# Altium integrated library Analog Devices RF IF PLL Synthesizers and VCOs.IntLib: 183 symbols (part 12 of 15)
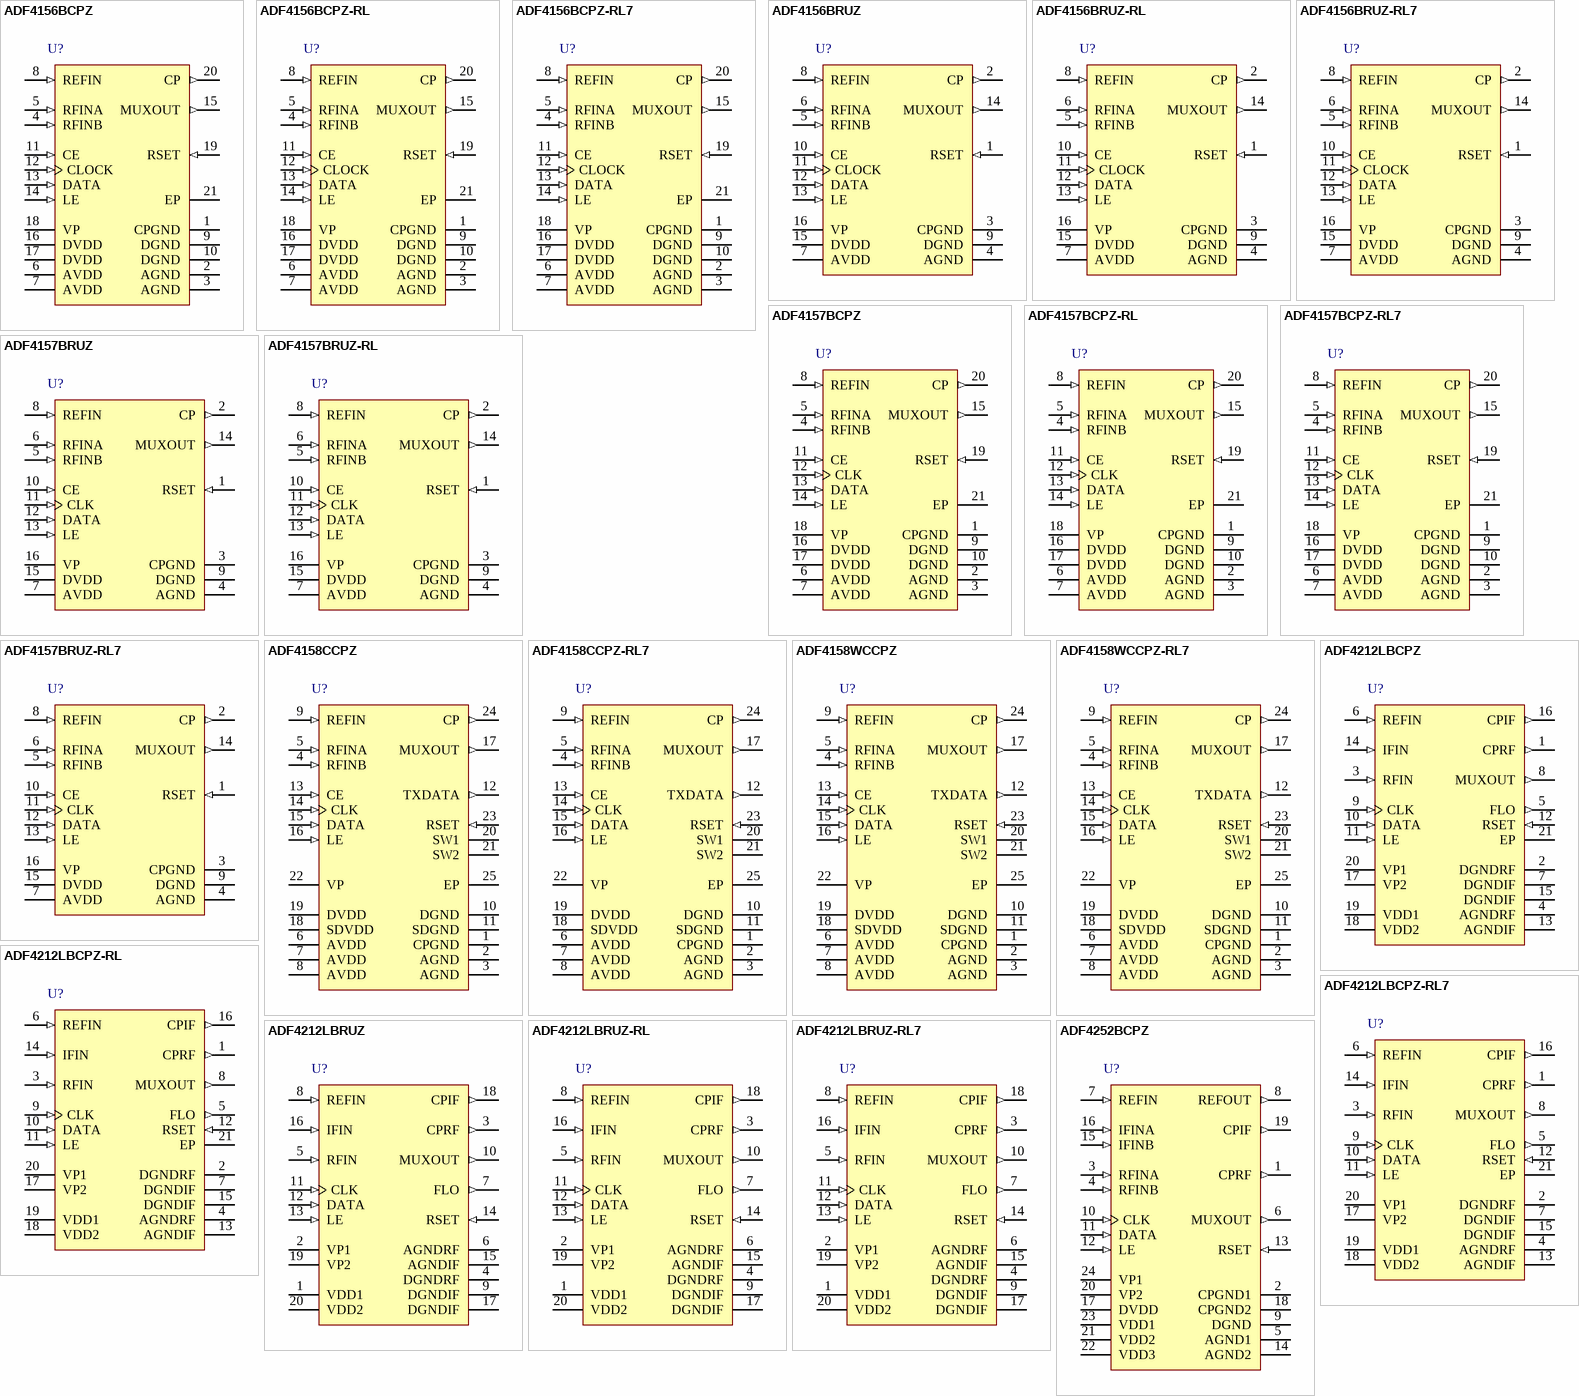
[diagram p19: symbols ADF4156BCPZ to ADF4252BCPZ]

## ADF4212LBRUZ-RL7
designator U?
Dual Low Power PLL Frequency Synthesizer, RU-20, Pb-Free, 1000 Reel; Max RF Input (MHz): 2.4GHz; RF Prescalers: 16/17, 32/33, 64/65, 8/9; Max REFin (MHz): 150MHz; Norm Phase Noise (dBc/Hz): -215dBc; Frequency Range: 200MHz-2.4GHz; Supply Current: 7.5mA; DatasheetVersion: Rev. C; PackageVersion: 2000; PackageReference: RU-20; PackageDescription: 20-Lead Thin Shrink Small Outline Package [TSSOP]; Single/Dual: Dual; Code_JEDEC: MO-153AC; ComponentLink1Description: Manufacturer URL; ComponentLink1URL: www.analog.com; ComponentLink2Description: Datasheet; ComponentLink2URL: http://www.analog.com/static/imported-files/data_sheets/ADF4212L.pdf; ComponentLink3Description: Package Specification; ComponentLink3URL: http://www.analog.com/static/imported-files/packages/364515793657813558433715854054607941441RU20.pdf
footprint ADI-RU-20_N (TSOP, 20-Leads, Body 6.5x4.4mm, Pitch 0.65mm, IPC Medium Density)
footprint ADI-RU-20_L (TSOP, 20-Leads, Body 6.5x4.4mm, Pitch 0.65mm, IPC High Density)
footprint ADI-RU-20_M (TSOP, 20-Leads, Body 6.5x4.4mm, Pitch 0.65mm, IPC Low Density)
pins: 1 VDD1 (power) "Power Supply for the RF Section. Decoupling capacitors to the ground plane should be placed as close as possible to this pin. VDD1 should have a value of between 2.6 V and 3.3 V. [see datasheet]", 2 VP1 (power) "Power Supply for the RF Charge Pump.", 3 CPRF (out) "RF Charge Pump Output. When enabled, this provides +/-ICP to the external RF loop filter, which in turn drives the external RF VCO", 4 DGNDRF (power) "Digital Ground Pin for the RF Digital Circuitry", 5 RFIN (in) "Input to the RF Prescaler. This small signal input is normally ac-coupled from the RF VCO", 6 AGNDRF (power) "Ground Pin for the RF Analog Circuitry", 7 FLO (out) "Multiplexed Output of RF/IF Programmable or Reference Dividers, RF/IF Fastlock Mode. CMOS output", 8 REFIN (in) "Reference Input. This is a CMOS input with a nominal threshold of VDD/2 and an equivalent input resistance of 100 k ohm. See Figure 26. [see datasheet]", 9 DGNDIF (power) "Digital Ground Pin for the IF Digital, Interface, and Control Circuitry", 10 MUXOUT (out) "This multiplexer output allows either the IF/RF lock detect, the scaled RF, the scaled IF, or the scaled reference frequency to be accessed externally", 11 CLK (in) "Serial Clock Input. This serial clock is used to clock in the serial data to the registers. The data is latched into the 24-bit shift register on the CLK rising edge. [see datasheet]", 12 DATA (in) "Serial Data Input. The serial data is loaded MSB first with the two LSBs being the control bits. This input is a high impedance CMOS input", 13 LE (in) "Load Enable, CMOS Input. When LE goes high, the data stored in the shift registers is loaded into one of the four latches, with the latch selected using the control bits", 14 RSET (in) "Connecting a resistor between this pin and ground sets the maximum RF and IF charge pump output current. The nominal voltage potential at the RSET pin is 0.66 V", 15 AGNDIF (power) "Ground Pin for the IF Analog Circuitry", 16 IFIN (in) "Input to the IF Prescaler. This small signal input is normally ac-coupled from the IF VCO", 17 DGNDIF (power) "Digital Ground Pin for the IF Digital, Interface, and Control Circuitry", 18 CPIF (out) "Output from the IF Charge Pump. This is normally connected to a loop filter that drives the input to an external VCO", 19 VP2 (power) "Power Supply for the IF Charge Pump", 20 VDD2 (power) "Power Supply for the IF, Digital, and Interface Section. Decoupling capacitors to the ground plane should be placed as close as possible to this pin. [see datasheet]"

## ADF4252BCPZ
designator U?
Dual Fractional-N/Integer-N Frequency Synthesizer, CP-24-1, Pb-Free, 490 Tray; Max RF Input (MHz): 3GHz; RF Prescalers: 4/5, 8/9; Max REFin (MHz): 250MHz; Norm Phase Noise (dBc/Hz): -214dBc; Supply Current: 13mA; DatasheetVersion: RevB; PackageVersion: May-2004; PackageReference: CP-24-1; PackageDescription: 24-Lead Lead Frame Chip Scale Package [LFCSP]; Single/Dual: Dual; Code_JEDEC: MO-220-VGGD-2; ComponentLink1Description: Manufacturer URL; ComponentLink1URL: www.analog.com; ComponentLink2Description: Datasheet; ComponentLink2URL: http://www.analog.com/static/imported-files/data_sheets/ADF4252.pdf; ComponentLink3Description: Package Specification; ComponentLink3URL: http://www.analog.com/static/imported-files/packages/CP_24_1.pdf
footprint ADI-CP-24-1_N (QFN, 24-Leads, Body 4x4mm, Pitch 0.5mm, Thermal Pad 2.1x2.1mm, IPC Medium Density)
footprint ADI-CP-24-1_L (QFN, 24-Leads, Body 4x4mm, Pitch 0.5mm, Thermal Pad 2.1x2.1mm, IPC High Density)
footprint ADI-CP-24-1_M (QFN, 24-Leads, Body 4x4mm, Pitch 0.5mm, Thermal Pad 2.1x2.1mm, IPC Low Density)
pins: 1 CPRF (out) "RF Charge Pump Output. This is normally connected to a loop filter that drives the input to an external VCO.", 2 CPGND1 (power) "RF Charge Pump Ground.", 3 RFINA (in) "Input to the RF Prescaler. This small signal input is normally taken from the VCO.", 4 RFINB (in) "Complementary Input to the RF Prescaler.", 5 AGND1 (power) "Analog Ground for the RF Synthesizer.", 6 MUXOUT (out) "This multiplexer output allows either the RF or IF lock detect, the scaled RF or IF, or the scaled reference frequency to be accessed externally.", 7 REFIN (in) "Reference Input. This is a CMOS input with a nominal threshold of VDD/2 and an equivalent input resistance of 100 k ohm. [see datasheet]", 8 REFOUT (out) "Reference Output.", 9 DGND (power) "Digital Ground for the Fractional Interpolator.", 10 CLK (in) "Serial Clock Input. This serial clock is used to clock in the serial data to the registers. The data is latched into the shift register on the CLK rising edge. [see datasheet]", 11 DATA (in) "Serial Data Input. The serial data is loaded MSB first with the three LSBs being the control bits. This input is a high impedance CMOS input.", 12 LE (in) "Load Enable, CMOS Input. When LE goes high, the data stored in the shift registers is loaded into one of the seven latches, the latch being selected using the control bits.", 13 RSET (in) "Connecting a resistor between this pin and ground sets the minimum charge pump output current.", 14 AGND2 (power) "Ground for the IF Synthesizer.", 15 IFINB (in) "Complementary Input to the IF Prescaler.", 16 IFINA (in) "Input to the IF Prescaler. This small signal input is normally taken from the IF VCO.", 17 DVDD (power) "Positive Power Supply for the Fractional Interpolator Section. Decoupling capacitors to the ground plane should be placed as close as possible to this pin. [see datasheet]", 18 CPGND2 (power) "IF Charge Pump Ground.", 19 CPIF (out) "IF Charge Pump Output. This is normally connected to a loop filter that drives the input to an external VCO.", 20 VP2 (power) "IF Charge Pump Power Supply. Decoupling capacitors to the ground plane should be placed as close as possible to this pin. This voltage should be greater than or equal to VDD2.", 21 VDD2 (power) "Positive Power Supply for the IF Section. Decoupling capacitors to the ground plane should be placed as close as possible to this pin. [see datasheet]", 22 VDD3 (power) "Positive Power Supply for the RF Digital Section. Decoupling capacitors to the ground plane should be placed as close as possible to this pin. [see datasheet]", 23 VDD1 (power) "Positive Power Supply for the RF Analog Section. Decoupling capacitors to the ground plane should be placed as close as possible to this pin. [see datasheet]", 24 VP1 (power) "RF Charge Pump Power Supply. Decoupling capacitors to the ground plane should be placed as close as possible to this pin. This voltage should be greater than or equal to VDD1."

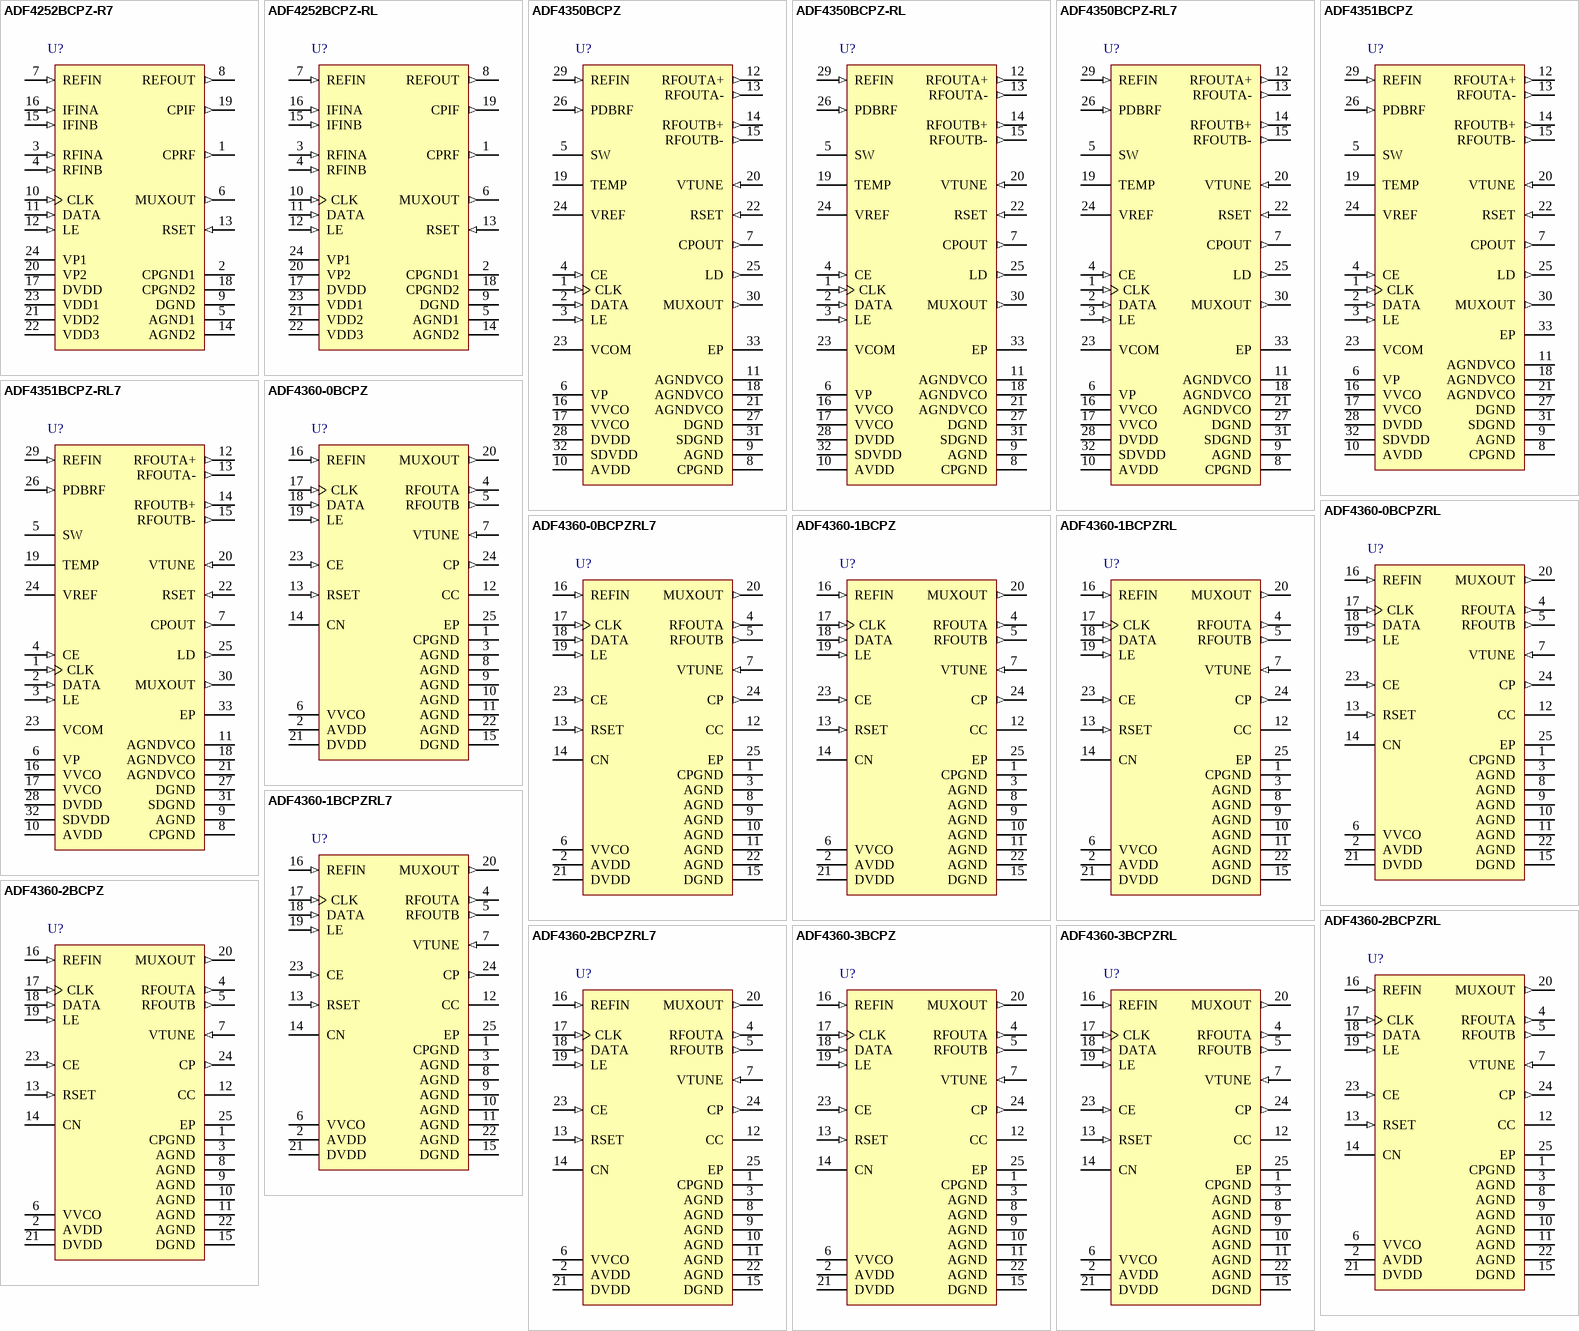
[diagram p6: symbols ADF4252BCPZ-R7 to ADF4360-3BCPZRL]

## ADF4252BCPZ-R7
designator U?
Dual Fractional-N/Integer-N Frequency Synthesizer, CP-24-1, Pb-Free, 1500 Reel; Max RF Input (MHz): 3GHz; RF Prescalers: 4/5, 8/9; Max REFin (MHz): 250MHz; Norm Phase Noise (dBc/Hz): -214dBc; Supply Current: 13mA; DatasheetVersion: RevB; PackageVersion: May-2004; PackageReference: CP-24-1; PackageDescription: 24-Lead Lead Frame Chip Scale Package [LFCSP]; Single/Dual: Dual; Code_JEDEC: MO-220-VGGD-2; ComponentLink1Description: Manufacturer URL; ComponentLink1URL: www.analog.com; ComponentLink2Description: Datasheet; ComponentLink2URL: http://www.analog.com/static/imported-files/data_sheets/ADF4252.pdf; ComponentLink3Description: Package Specification; ComponentLink3URL: http://www.analog.com/static/imported-files/packages/CP_24_1.pdf
footprint ADI-CP-24-1_N (QFN, 24-Leads, Body 4x4mm, Pitch 0.5mm, Thermal Pad 2.1x2.1mm, IPC Medium Density)
footprint ADI-CP-24-1_L (QFN, 24-Leads, Body 4x4mm, Pitch 0.5mm, Thermal Pad 2.1x2.1mm, IPC High Density)
footprint ADI-CP-24-1_M (QFN, 24-Leads, Body 4x4mm, Pitch 0.5mm, Thermal Pad 2.1x2.1mm, IPC Low Density)
pins: 1 CPRF (out) "RF Charge Pump Output. This is normally connected to a loop filter that drives the input to an external VCO.", 2 CPGND1 (power) "RF Charge Pump Ground.", 3 RFINA (in) "Input to the RF Prescaler. This small signal input is normally taken from the VCO.", 4 RFINB (in) "Complementary Input to the RF Prescaler.", 5 AGND1 (power) "Analog Ground for the RF Synthesizer.", 6 MUXOUT (out) "This multiplexer output allows either the RF or IF lock detect, the scaled RF or IF, or the scaled reference frequency to be accessed externally.", 7 REFIN (in) "Reference Input. This is a CMOS input with a nominal threshold of VDD/2 and an equivalent input resistance of 100 k ohm. [see datasheet]", 8 REFOUT (out) "Reference Output.", 9 DGND (power) "Digital Ground for the Fractional Interpolator.", 10 CLK (in) "Serial Clock Input. This serial clock is used to clock in the serial data to the registers. The data is latched into the shift register on the CLK rising edge. [see datasheet]", 11 DATA (in) "Serial Data Input. The serial data is loaded MSB first with the three LSBs being the control bits. This input is a high impedance CMOS input.", 12 LE (in) "Load Enable, CMOS Input. When LE goes high, the data stored in the shift registers is loaded into one of the seven latches, the latch being selected using the control bits.", 13 RSET (in) "Connecting a resistor between this pin and ground sets the minimum charge pump output current.", 14 AGND2 (power) "Ground for the IF Synthesizer.", 15 IFINB (in) "Complementary Input to the IF Prescaler.", 16 IFINA (in) "Input to the IF Prescaler. This small signal input is normally taken from the IF VCO.", 17 DVDD (power) "Positive Power Supply for the Fractional Interpolator Section. Decoupling capacitors to the ground plane should be placed as close as possible to this pin. [see datasheet]", 18 CPGND2 (power) "IF Charge Pump Ground.", 19 CPIF (out) "IF Charge Pump Output. This is normally connected to a loop filter that drives the input to an external VCO.", 20 VP2 (power) "IF Charge Pump Power Supply. Decoupling capacitors to the ground plane should be placed as close as possible to this pin. This voltage should be greater than or equal to VDD2.", 21 VDD2 (power) "Positive Power Supply for the IF Section. Decoupling capacitors to the ground plane should be placed as close as possible to this pin. [see datasheet]", 22 VDD3 (power) "Positive Power Supply for the RF Digital Section. Decoupling capacitors to the ground plane should be placed as close as possible to this pin. [see datasheet]", 23 VDD1 (power) "Positive Power Supply for the RF Analog Section. Decoupling capacitors to the ground plane should be placed as close as possible to this pin. [see datasheet]", 24 VP1 (power) "RF Charge Pump Power Supply. Decoupling capacitors to the ground plane should be placed as close as possible to this pin. This voltage should be greater than or equal to VDD1."

## ADF4252BCPZ-RL
designator U?
Dual Fractional-N/Integer-N Frequency Synthesizer, CP-24-1, Pb-Free, 5000 Reel; Max RF Input (MHz): 3GHz; RF Prescalers: 4/5, 8/9; Max REFin (MHz): 250MHz; Norm Phase Noise (dBc/Hz): -214dBc; Supply Current: 13mA; DatasheetVersion: RevB; PackageVersion: May-2004; PackageReference: CP-24-1; PackageDescription: 24-Lead Lead Frame Chip Scale Package [LFCSP]; Single/Dual: Dual; Code_JEDEC: MO-220-VGGD-2; ComponentLink1Description: Manufacturer URL; ComponentLink1URL: www.analog.com; ComponentLink2Description: Datasheet; ComponentLink2URL: http://www.analog.com/static/imported-files/data_sheets/ADF4252.pdf; ComponentLink3Description: Package Specification; ComponentLink3URL: http://www.analog.com/static/imported-files/packages/CP_24_1.pdf
footprint ADI-CP-24-1_N (QFN, 24-Leads, Body 4x4mm, Pitch 0.5mm, Thermal Pad 2.1x2.1mm, IPC Medium Density)
footprint ADI-CP-24-1_L (QFN, 24-Leads, Body 4x4mm, Pitch 0.5mm, Thermal Pad 2.1x2.1mm, IPC High Density)
footprint ADI-CP-24-1_M (QFN, 24-Leads, Body 4x4mm, Pitch 0.5mm, Thermal Pad 2.1x2.1mm, IPC Low Density)
pins: 1 CPRF (out) "RF Charge Pump Output. This is normally connected to a loop filter that drives the input to an external VCO.", 2 CPGND1 (power) "RF Charge Pump Ground.", 3 RFINA (in) "Input to the RF Prescaler. This small signal input is normally taken from the VCO.", 4 RFINB (in) "Complementary Input to the RF Prescaler.", 5 AGND1 (power) "Analog Ground for the RF Synthesizer.", 6 MUXOUT (out) "This multiplexer output allows either the RF or IF lock detect, the scaled RF or IF, or the scaled reference frequency to be accessed externally.", 7 REFIN (in) "Reference Input. This is a CMOS input with a nominal threshold of VDD/2 and an equivalent input resistance of 100 k ohm. [see datasheet]", 8 REFOUT (out) "Reference Output.", 9 DGND (power) "Digital Ground for the Fractional Interpolator.", 10 CLK (in) "Serial Clock Input. This serial clock is used to clock in the serial data to the registers. The data is latched into the shift register on the CLK rising edge. [see datasheet]", 11 DATA (in) "Serial Data Input. The serial data is loaded MSB first with the three LSBs being the control bits. This input is a high impedance CMOS input.", 12 LE (in) "Load Enable, CMOS Input. When LE goes high, the data stored in the shift registers is loaded into one of the seven latches, the latch being selected using the control bits.", 13 RSET (in) "Connecting a resistor between this pin and ground sets the minimum charge pump output current.", 14 AGND2 (power) "Ground for the IF Synthesizer.", 15 IFINB (in) "Complementary Input to the IF Prescaler.", 16 IFINA (in) "Input to the IF Prescaler. This small signal input is normally taken from the IF VCO.", 17 DVDD (power) "Positive Power Supply for the Fractional Interpolator Section. Decoupling capacitors to the ground plane should be placed as close as possible to this pin. [see datasheet]", 18 CPGND2 (power) "IF Charge Pump Ground.", 19 CPIF (out) "IF Charge Pump Output. This is normally connected to a loop filter that drives the input to an external VCO.", 20 VP2 (power) "IF Charge Pump Power Supply. Decoupling capacitors to the ground plane should be placed as close as possible to this pin. This voltage should be greater than or equal to VDD2.", 21 VDD2 (power) "Positive Power Supply for the IF Section. Decoupling capacitors to the ground plane should be placed as close as possible to this pin. [see datasheet]", 22 VDD3 (power) "Positive Power Supply for the RF Digital Section. Decoupling capacitors to the ground plane should be placed as close as possible to this pin. [see datasheet]", 23 VDD1 (power) "Positive Power Supply for the RF Analog Section. Decoupling capacitors to the ground plane should be placed as close as possible to this pin. [see datasheet]", 24 VP1 (power) "RF Charge Pump Power Supply. Decoupling capacitors to the ground plane should be placed as close as possible to this pin. This voltage should be greater than or equal to VDD1."

## ADF4350BCPZ
designator U?
Wideband Synthesizer with Integrated VCO, CP-32-2, Pb-Free, 490 Tray; Single/Dual: Single; Max RF Input (MHz): 4.4GHz; RF Prescalers: 4/5, 8/9; Max REFin (MHz): 250MHz; Norm Phase Noise (dBc/Hz): -220dBc; Frequency Range: 137.5MHz-4.35GHz; Supply Current: 110mA; DatasheetVersion: Rev. A; PackageVersion: Jan-2005; PackageReference: CP-32-2; PackageDescription: 32-Lead Lead Frame Chip Scale Package [LFCSP_VQ]; Code_JEDEC: MO-220-VHHD-2; ComponentLink1Description: Manufacturer URL; ComponentLink1URL: www.analog.com; ComponentLink2Description: Datasheet; ComponentLink2URL: http://www.analog.com/static/imported-files/data_sheets/ADF4350.pdf; ComponentLink3Description: Package Specification; ComponentLink3URL: http://www.analog.com/static/imported-files/packages/414143737956480539664569CP_32_2.pdf
footprint ADI-CP-32-2_N (QFN, 32-Leads, Body 5x5mm, Pitch 0.5mm, Thermal Pad 3.1x3.1mm, IPC Medium Density)
footprint ADI-CP-32-2_L (QFN, 32-Leads, Body 5x5mm, Pitch 0.5mm, Thermal Pad 3.1x3.1mm, IPC High Density)
footprint ADI-CP-32-2_M (QFN, 32-Leads, Body 5x5mm, Pitch 0.5mm, Thermal Pad 3.1x3.1mm, IPC Low Density)
pins: 1 CLK (in) "Serial Clock Input. Data is clocked into the 32-bit shift register on the CLK rising edge. This input is a high impedance CMOS input.", 2 DATA (in) "Serial Data Input. The serial data is loaded MSB first with the three LSBs as the control bits. This input is a high impedance CMOS input.", 3 LE (in) "Load Enable, CMOS Input. When LE goes high, the data stored in the shift register is loaded into the register that is selected by the three LSBs.", 4 CE (in) "Chip Enable. A logic low on this pin powers down the device and puts the charge pump into three-state mode. [see datasheet]", 5 SW "Fast-Lock Switch. A connection should be made from the loop filter to this pin when using the fast-lock mode.", 6 VP (power) "Charge Pump Power Supply. This pin is to be equal to AVDD. Decoupling capacitors to the ground plane are to be placed as close as possible to this pin.", 7 CPOUT (out) "Charge Pump Output. When enabled, this provides +/-ICP to the external loop filter. The output of the loop filter is connected to VTUNE to drive the internal VCO.", 8 CPGND (power) "Charge Pump Ground. This is the ground return pin for CPOUT.", 9 AGND (power) "Analog Ground. This is a ground return pin for AVDD.", 10 AVDD (power) "Analog Power Supply. This pin ranges from 3.0 V to 3.6 V. Decoupling capacitors to the analog ground plane are to be placed as close as possible to this pin. [see datasheet]", 11 AGNDVCO (power) "VCO Analog Ground. These are the ground return pins for the VCO.", 12 RFOUTA+ (out) "VCO Output. The output level is programmable. The VCO fundamental output or a divided down version is available.", 13 RFOUTA- (out) "Complementary VCO Output. The output level is programmable. The VCO fundamental output or a divided down version is available.", 14 RFOUTB+ (out) "Auxilliary VCO Output. The output level is programmable. The VCO fundamental output or a divided down version is available.", 15 RFOUTB- (out) "Complementary Auxilliary VCO Output. The output level is programmable. The VCO fundamental output or a divided down version is available.", 16 VVCO (power) "Power Supply for the VCO. This ranges from 3.0 V to 3.6 V. Decoupling capacitors to the analog ground plane should be placed as close as possible to these pins. [see datasheet]", 17 VVCO (power) "Power Supply for the VCO. This ranges from 3.0 V to 3.6 V. Decoupling capacitors to the analog ground plane should be placed as close as possible to these pins. [see datasheet]", 18 AGNDVCO (power) "VCO Analog Ground. These are the ground return pins for the VCO.", 19 TEMP "Temperature Compensation Output. Decoupling capacitors to the ground plane are to be placed as close as possible to this pin.", 20 VTUNE (in) "Control Input to the VCO. This voltage determines the output frequency and is derived from filtering the CPOUT output voltage.", 21 AGNDVCO (power) "VCO Analog Ground. These are the ground return pins for the VCO.", 22 RSET (in) "Connecting a resistor between this pin and GND sets the charge pump output current. The nominal voltage bias at the RSET pin is 0.55 V. [see datasheet.]", 23 VCOM "Internal Compensation Node Biased at Half the Tuning Range. Decoupling capacitors to the ground plane should be placed as close as possible to this pin.", 24 VREF "Reference Voltage. Decoupling capacitors to the ground plane should be placed as close as possible to this pin.", 25 LD (out) "Lock Detect Output Pin. This pin outputs a logic high to indicate PLL lock. A logic low output indicates loss of PLL lock.", 26 PDBRF (in) "RF Power-Down. A logic low on this pin mutes the RF outputs. This function is also software controllable.", 27 DGND (power) "Digital Ground. Ground return path for DVDD.", 28 DVDD (power) "Digital Power Supply. This pin should be the same voltage as AVDD. Decoupling capacitors to the ground plane should be placed as close as possible to this pin.", 29 REFIN (in) "Reference Input. This is a CMOS input with a nominal threshold of VDD/2 and a dc equivalent input resistance of 100 k ohm. [see datasheet]", 30 MUXOUT (out) "Multiplexer Output. This multiplexer output allows either the lock detect, the scaled RF, or the scaled reference frequency to be accessed externally.", 31 SDGND (power) "Digital Sigma-Delta (Sigma-Delta) Modulator Ground. Ground return path for the Sigma-Delta modulator.", 32 SDVDD (power) "Power Supply Pin for the Digital Sigma-Delta Modulator. Should be the same voltage as AVDD. Decouplingcapacitorsto the ground plane are to be placed as close as possible to this pin.", 33 EP (power) "Exposed Pad."

## ADF4350BCPZ-RL
designator U?
Wideband Synthesizer with Integrated VCO, CP-32-2, Pb-Free, 5000 Reel; Single/Dual: Single; Max RF Input (MHz): 4.4GHz; RF Prescalers: 4/5, 8/9; Max REFin (MHz): 250MHz; Norm Phase Noise (dBc/Hz): -220dBc; Frequency Range: 137.5MHz-4.35GHz; Supply Current: 110mA; DatasheetVersion: Rev. A; PackageVersion: Jan-2005; PackageReference: CP-32-2; PackageDescription: 32-Lead Lead Frame Chip Scale Package [LFCSP_VQ]; Code_JEDEC: MO-220-VHHD-2; ComponentLink1Description: Manufacturer URL; ComponentLink1URL: www.analog.com; ComponentLink2Description: Datasheet; ComponentLink2URL: http://www.analog.com/static/imported-files/data_sheets/ADF4350.pdf; ComponentLink3Description: Package Specification; ComponentLink3URL: http://www.analog.com/static/imported-files/packages/414143737956480539664569CP_32_2.pdf
footprint ADI-CP-32-2_N (QFN, 32-Leads, Body 5x5mm, Pitch 0.5mm, Thermal Pad 3.1x3.1mm, IPC Medium Density)
footprint ADI-CP-32-2_L (QFN, 32-Leads, Body 5x5mm, Pitch 0.5mm, Thermal Pad 3.1x3.1mm, IPC High Density)
footprint ADI-CP-32-2_M (QFN, 32-Leads, Body 5x5mm, Pitch 0.5mm, Thermal Pad 3.1x3.1mm, IPC Low Density)
pins: 1 CLK (in) "Serial Clock Input. Data is clocked into the 32-bit shift register on the CLK rising edge. This input is a high impedance CMOS input.", 2 DATA (in) "Serial Data Input. The serial data is loaded MSB first with the three LSBs as the control bits. This input is a high impedance CMOS input.", 3 LE (in) "Load Enable, CMOS Input. When LE goes high, the data stored in the shift register is loaded into the register that is selected by the three LSBs.", 4 CE (in) "Chip Enable. A logic low on this pin powers down the device and puts the charge pump into three-state mode. [see datasheet]", 5 SW "Fast-Lock Switch. A connection should be made from the loop filter to this pin when using the fast-lock mode.", 6 VP (power) "Charge Pump Power Supply. This pin is to be equal to AVDD. Decoupling capacitors to the ground plane are to be placed as close as possible to this pin.", 7 CPOUT (out) "Charge Pump Output. When enabled, this provides +/-ICP to the external loop filter. The output of the loop filter is connected to VTUNE to drive the internal VCO.", 8 CPGND (power) "Charge Pump Ground. This is the ground return pin for CPOUT.", 9 AGND (power) "Analog Ground. This is a ground return pin for AVDD.", 10 AVDD (power) "Analog Power Supply. This pin ranges from 3.0 V to 3.6 V. Decoupling capacitors to the analog ground plane are to be placed as close as possible to this pin. [see datasheet]", 11 AGNDVCO (power) "VCO Analog Ground. These are the ground return pins for the VCO.", 12 RFOUTA+ (out) "VCO Output. The output level is programmable. The VCO fundamental output or a divided down version is available.", 13 RFOUTA- (out) "Complementary VCO Output. The output level is programmable. The VCO fundamental output or a divided down version is available.", 14 RFOUTB+ (out) "Auxilliary VCO Output. The output level is programmable. The VCO fundamental output or a divided down version is available.", 15 RFOUTB- (out) "Complementary Auxilliary VCO Output. The output level is programmable. The VCO fundamental output or a divided down version is available.", 16 VVCO (power) "Power Supply for the VCO. This ranges from 3.0 V to 3.6 V. Decoupling capacitors to the analog ground plane should be placed as close as possible to these pins. [see datasheet]", 17 VVCO (power) "Power Supply for the VCO. This ranges from 3.0 V to 3.6 V. Decoupling capacitors to the analog ground plane should be placed as close as possible to these pins. [see datasheet]", 18 AGNDVCO (power) "VCO Analog Ground. These are the ground return pins for the VCO.", 19 TEMP "Temperature Compensation Output. Decoupling capacitors to the ground plane are to be placed as close as possible to this pin.", 20 VTUNE (in) "Control Input to the VCO. This voltage determines the output frequency and is derived from filtering the CPOUT output voltage.", 21 AGNDVCO (power) "VCO Analog Ground. These are the ground return pins for the VCO.", 22 RSET (in) "Connecting a resistor between this pin and GND sets the charge pump output current. The nominal voltage bias at the RSET pin is 0.55 V. [see datasheet.]", 23 VCOM "Internal Compensation Node Biased at Half the Tuning Range. Decoupling capacitors to the ground plane should be placed as close as possible to this pin.", 24 VREF "Reference Voltage. Decoupling capacitors to the ground plane should be placed as close as possible to this pin.", 25 LD (out) "Lock Detect Output Pin. This pin outputs a logic high to indicate PLL lock. A logic low output indicates loss of PLL lock.", 26 PDBRF (in) "RF Power-Down. A logic low on this pin mutes the RF outputs. This function is also software controllable.", 27 DGND (power) "Digital Ground. Ground return path for DVDD.", 28 DVDD (power) "Digital Power Supply. This pin should be the same voltage as AVDD. Decoupling capacitors to the ground plane should be placed as close as possible to this pin.", 29 REFIN (in) "Reference Input. This is a CMOS input with a nominal threshold of VDD/2 and a dc equivalent input resistance of 100 k ohm. [see datasheet]", 30 MUXOUT (out) "Multiplexer Output. This multiplexer output allows either the lock detect, the scaled RF, or the scaled reference frequency to be accessed externally.", 31 SDGND (power) "Digital Sigma-Delta (Sigma-Delta) Modulator Ground. Ground return path for the Sigma-Delta modulator.", 32 SDVDD (power) "Power Supply Pin for the Digital Sigma-Delta Modulator. Should be the same voltage as AVDD. Decouplingcapacitorsto the ground plane are to be placed as close as possible to this pin.", 33 EP (power) "Exposed Pad."

## ADF4350BCPZ-RL7
designator U?
Wideband Synthesizer with Integrated VCO, CP-32-2, Pb-Free, 1500 Reel; Single/Dual: Single; Max RF Input (MHz): 4.4GHz; RF Prescalers: 4/5, 8/9; Max REFin (MHz): 250MHz; Norm Phase Noise (dBc/Hz): -220dBc; Frequency Range: 137.5MHz-4.35GHz; Supply Current: 110mA; DatasheetVersion: Rev. A; PackageVersion: Jan-2005; PackageReference: CP-32-2; PackageDescription: 32-Lead Lead Frame Chip Scale Package [LFCSP_VQ]; Code_JEDEC: MO-220-VHHD-2; ComponentLink1Description: Manufacturer URL; ComponentLink1URL: www.analog.com; ComponentLink2Description: Datasheet; ComponentLink2URL: http://www.analog.com/static/imported-files/data_sheets/ADF4350.pdf; ComponentLink3Description: Package Specification; ComponentLink3URL: http://www.analog.com/static/imported-files/packages/414143737956480539664569CP_32_2.pdf
footprint ADI-CP-32-2_N (QFN, 32-Leads, Body 5x5mm, Pitch 0.5mm, Thermal Pad 3.1x3.1mm, IPC Medium Density)
footprint ADI-CP-32-2_L (QFN, 32-Leads, Body 5x5mm, Pitch 0.5mm, Thermal Pad 3.1x3.1mm, IPC High Density)
footprint ADI-CP-32-2_M (QFN, 32-Leads, Body 5x5mm, Pitch 0.5mm, Thermal Pad 3.1x3.1mm, IPC Low Density)
pins: 1 CLK (in) "Serial Clock Input. Data is clocked into the 32-bit shift register on the CLK rising edge. This input is a high impedance CMOS input.", 2 DATA (in) "Serial Data Input. The serial data is loaded MSB first with the three LSBs as the control bits. This input is a high impedance CMOS input.", 3 LE (in) "Load Enable, CMOS Input. When LE goes high, the data stored in the shift register is loaded into the register that is selected by the three LSBs.", 4 CE (in) "Chip Enable. A logic low on this pin powers down the device and puts the charge pump into three-state mode. [see datasheet]", 5 SW "Fast-Lock Switch. A connection should be made from the loop filter to this pin when using the fast-lock mode.", 6 VP (power) "Charge Pump Power Supply. This pin is to be equal to AVDD. Decoupling capacitors to the ground plane are to be placed as close as possible to this pin.", 7 CPOUT (out) "Charge Pump Output. When enabled, this provides +/-ICP to the external loop filter. The output of the loop filter is connected to VTUNE to drive the internal VCO.", 8 CPGND (power) "Charge Pump Ground. This is the ground return pin for CPOUT.", 9 AGND (power) "Analog Ground. This is a ground return pin for AVDD.", 10 AVDD (power) "Analog Power Supply. This pin ranges from 3.0 V to 3.6 V. Decoupling capacitors to the analog ground plane are to be placed as close as possible to this pin. [see datasheet]", 11 AGNDVCO (power) "VCO Analog Ground. These are the ground return pins for the VCO.", 12 RFOUTA+ (out) "VCO Output. The output level is programmable. The VCO fundamental output or a divided down version is available.", 13 RFOUTA- (out) "Complementary VCO Output. The output level is programmable. The VCO fundamental output or a divided down version is available.", 14 RFOUTB+ (out) "Auxilliary VCO Output. The output level is programmable. The VCO fundamental output or a divided down version is available.", 15 RFOUTB- (out) "Complementary Auxilliary VCO Output. The output level is programmable. The VCO fundamental output or a divided down version is available.", 16 VVCO (power) "Power Supply for the VCO. This ranges from 3.0 V to 3.6 V. Decoupling capacitors to the analog ground plane should be placed as close as possible to these pins. [see datasheet]", 17 VVCO (power) "Power Supply for the VCO. This ranges from 3.0 V to 3.6 V. Decoupling capacitors to the analog ground plane should be placed as close as possible to these pins. [see datasheet]", 18 AGNDVCO (power) "VCO Analog Ground. These are the ground return pins for the VCO.", 19 TEMP "Temperature Compensation Output. Decoupling capacitors to the ground plane are to be placed as close as possible to this pin.", 20 VTUNE (in) "Control Input to the VCO. This voltage determines the output frequency and is derived from filtering the CPOUT output voltage.", 21 AGNDVCO (power) "VCO Analog Ground. These are the ground return pins for the VCO.", 22 RSET (in) "Connecting a resistor between this pin and GND sets the charge pump output current. The nominal voltage bias at the RSET pin is 0.55 V. [see datasheet.]", 23 VCOM "Internal Compensation Node Biased at Half the Tuning Range. Decoupling capacitors to the ground plane should be placed as close as possible to this pin.", 24 VREF "Reference Voltage. Decoupling capacitors to the ground plane should be placed as close as possible to this pin.", 25 LD (out) "Lock Detect Output Pin. This pin outputs a logic high to indicate PLL lock. A logic low output indicates loss of PLL lock.", 26 PDBRF (in) "RF Power-Down. A logic low on this pin mutes the RF outputs. This function is also software controllable.", 27 DGND (power) "Digital Ground. Ground return path for DVDD.", 28 DVDD (power) "Digital Power Supply. This pin should be the same voltage as AVDD. Decoupling capacitors to the ground plane should be placed as close as possible to this pin.", 29 REFIN (in) "Reference Input. This is a CMOS input with a nominal threshold of VDD/2 and a dc equivalent input resistance of 100 k ohm. [see datasheet]", 30 MUXOUT (out) "Multiplexer Output. This multiplexer output allows either the lock detect, the scaled RF, or the scaled reference frequency to be accessed externally.", 31 SDGND (power) "Digital Sigma-Delta (Sigma-Delta) Modulator Ground. Ground return path for the Sigma-Delta modulator.", 32 SDVDD (power) "Power Supply Pin for the Digital Sigma-Delta Modulator. Should be the same voltage as AVDD. Decouplingcapacitorsto the ground plane are to be placed as close as possible to this pin.", 33 EP (power) "Exposed Pad."

## ADF4351BCPZ
designator U?
Wideband Synthesizer with Integrated VCO, CP-32-2, Pb-Free, 490 Tray; Single/Dual: Single; Max RF Input (MHz): 4.4GHz; RF Prescalers: 4/5,8/9; Max REFin (MHz): 250MHz; Norm Phase Noise (dBc/Hz): -221dBc; Frequency Range: 35MHz-4.4GHz; Supply Current: 110mA; DatasheetVersion: Rev. Pr D; PackageVersion: Jan-2005; PackageReference: CP-32-2; PackageDescription: 32-Lead Lead Frame Chip Scale Package [LFCSP_VQ]; Code_JEDEC: MO-220-VHHD-2; ComponentLink1Description: Manufacturer URL; ComponentLink1URL: www.analog.com; ComponentLink2Description: Datasheet; ComponentLink2URL: http://www.analog.com/static/imported-files/data_sheets/ADF4351.pdf; ComponentLink3Description: Package Specification; ComponentLink3URL: http://www.analog.com/static/imported-files/packages/414143737956480539664569CP_32_2.pdf
footprint ADI-CP-32-2_N (QFN, 32-Leads, Body 5x5mm, Pitch 0.5mm, Thermal Pad 3.1x3.1mm, IPC Medium Density)
footprint ADI-CP-32-2_L (QFN, 32-Leads, Body 5x5mm, Pitch 0.5mm, Thermal Pad 3.1x3.1mm, IPC High Density)
footprint ADI-CP-32-2_M (QFN, 32-Leads, Body 5x5mm, Pitch 0.5mm, Thermal Pad 3.1x3.1mm, IPC Low Density)
pins: 1 CLK (in) "Serial Clock Input. Data is clocked into the 32-bit shift register on the CLK rising edge. This input is a high impedance CMOS input.", 2 DATA (in) "Serial Data Input. The serial data is loaded MSB first with the three LSBs as the control bits. This input is a highimpedance CMOS input.", 3 LE (in) "Load Enable, CMOS Input. When LE goes high, the data stored in the shift register is loaded into the register that is selected by the three LSBs.", 4 CE (in) "Chip Enable. A logic low on this pin powers down the device and puts the charge pump into three-state mode. [see datasheet]", 5 SW "Fast-Lock Switch. A connection should be made from the loop filter to this pin when using the fast-lock mode.", 6 VP (power) "Charge Pump Power Supply. This pin is to be equal to AVDD. Decoupling capacitors to the ground plane are to be placed as close as possible to this pin.", 7 CPOUT (out) "Charge Pump Output. When enabled, this provides +/-ICP to the external loop filter. The output of the loop filter is connected to VTUNE to drive the internal VCO.", 8 CPGND (power) "Charge Pump Ground. This is the ground return pin for CPOUT.", 9 AGND (power) "Analog Ground. This is a ground return pin for AVDD.", 10 AVDD (power) "Analog Power Supply. This pin ranges from 3.0 V to 3.6 V. Decoupling capacitors to the analog ground plane are to be placed as close as possible to this pin. [see datasheet]", 11 AGNDVCO (power) "VCO Analog Ground. These are the ground return pins for the VCO.", 12 RFOUTA+ (out) "VCO Output. The output level is programmable. The VCO fundamental output or a divided down version is available.", 13 RFOUTA- (out) "Complementary VCO Output. The output level is programmable. The VCO fundamental output or a divide down version is available.", 14 RFOUTB+ (out) "Auxilliary VCO Output. The output level is programmable. The VCO fundamental output or a divided down version is available.", 15 RFOUTB- (out) "Complementary Auxilliary VCO Output. The output level is programmable. The VCO fundamental output or a divided down version is available.", 16 VVCO (power) "Power Supply for the VCO. This ranges from 3.0 V to 3.6 V. Decoupling capacitors to the analog ground plane should be placed as close as possible to these pins. [see datasheet]", 17 VVCO (power) "Power Supply for the VCO. This ranges from 3.0 V to 3.6 V. Decoupling capacitors to the analog ground plane should be placed as close as possible to these pins. [see datasheet]", 18 AGNDVCO (power) "VCO Analog Ground. These are the ground return pins for the VCO.", 19 TEMP "Temperature Compensation Output. Decoupling capacitors to the ground plane are to be placed as close as possible to this pin.", 20 VTUNE (in) "Control Input to the VCO. This voltage determines the output frequency and is derived from filtering the CPOUT output voltage.", 21 AGNDVCO (power) "VCO Analog Ground. These are the ground return pins for the VCO.", 22 RSET (in) "Connecting a resistor between this pin and GND sets the charge pump output current. The nominal voltage bias at the RSET pin is 0.55 V.", 23 VCOM "Internal Compensation Node Biased at Half the Tuning Range. Decoupling capacitors to the ground plane should be placed as close as possible to this pin.", 24 VREF "Reference Voltage. Decoupling capacitors to the ground plane should be placed as close as possible to this pin.", 25 LD (out) "Lock Detect Output Pin. This pin outputs a logic high to indicate PLL lock. A logic low output indicates loss of PLL lock.", 26 PDBRF (in) "RF Power-Down. A logic low on this pin mutes the RF outputs. This function is also software controllable.", 27 DGND (power) "Digital Ground. Ground return path for DVDD.", 28 DVDD (power) "Digital Power Supply. This pin should be the same voltage as AVDD. Decoupling capacitors to the ground plane should be placed as close as possible to this pin.", 29 REFIN (in) "Reference Input. This is a CMOS input with a nominal threshold of VDD/2 and a dc equivalent input resistance of 100 k ohm. [see datasheet]", 30 MUXOUT (out) "Multiplexer Output. This multiplexer output allows either the lock detect, the scaled RF, or the scaled reference frequency to be accessed externally.", 31 SDGND (power) "Digital Sigma-Delta Modulator Ground. Ground return path for the Sigma-Delta Modulator.", 32 SDVDD (power) "Power Supply Pin for the Digital Sigma-Delta Modulator. Should be the same voltage as AVDD. Decoupling capacitors to the ground plane are to be placed as close as possible to this pin.", 33 EP (power) "Exposed Pad."

## ADF4351BCPZ-RL7
designator U?
Wideband Synthesizer with Integrated VCO, CP-32-2, Pb-Free, 1500 Reel; Single/Dual: Single; Max RF Input (MHz): 4.4GHz; RF Prescalers: 4/5,8/9; Max REFin (MHz): 250MHz; Norm Phase Noise (dBc/Hz): -221dBc; Frequency Range: 35MHz-4.4GHz; Supply Current: 110mA; DatasheetVersion: Rev. Pr D; PackageVersion: Jan-2005; PackageReference: CP-32-2; PackageDescription: 32-Lead Lead Frame Chip Scale Package [LFCSP_VQ]; Code_JEDEC: MO-220-VHHD-2; ComponentLink1Description: Manufacturer URL; ComponentLink1URL: www.analog.com; ComponentLink2Description: Datasheet; ComponentLink2URL: http://www.analog.com/static/imported-files/data_sheets/ADF4351.pdf; ComponentLink3Description: Package Specification; ComponentLink3URL: http://www.analog.com/static/imported-files/packages/414143737956480539664569CP_32_2.pdf
footprint ADI-CP-32-2_N (QFN, 32-Leads, Body 5x5mm, Pitch 0.5mm, Thermal Pad 3.1x3.1mm, IPC Medium Density)
footprint ADI-CP-32-2_L (QFN, 32-Leads, Body 5x5mm, Pitch 0.5mm, Thermal Pad 3.1x3.1mm, IPC High Density)
footprint ADI-CP-32-2_M (QFN, 32-Leads, Body 5x5mm, Pitch 0.5mm, Thermal Pad 3.1x3.1mm, IPC Low Density)
pins: 1 CLK (in) "Serial Clock Input. Data is clocked into the 32-bit shift register on the CLK rising edge. This input is a high impedance CMOS input.", 2 DATA (in) "Serial Data Input. The serial data is loaded MSB first with the three LSBs as the control bits. This input is a highimpedance CMOS input.", 3 LE (in) "Load Enable, CMOS Input. When LE goes high, the data stored in the shift register is loaded into the register that is selected by the three LSBs.", 4 CE (in) "Chip Enable. A logic low on this pin powers down the device and puts the charge pump into three-state mode. [see datasheet]", 5 SW "Fast-Lock Switch. A connection should be made from the loop filter to this pin when using the fast-lock mode.", 6 VP (power) "Charge Pump Power Supply. This pin is to be equal to AVDD. Decoupling capacitors to the ground plane are to be placed as close as possible to this pin.", 7 CPOUT (out) "Charge Pump Output. When enabled, this provides +/-ICP to the external loop filter. The output of the loop filter is connected to VTUNE to drive the internal VCO.", 8 CPGND (power) "Charge Pump Ground. This is the ground return pin for CPOUT.", 9 AGND (power) "Analog Ground. This is a ground return pin for AVDD.", 10 AVDD (power) "Analog Power Supply. This pin ranges from 3.0 V to 3.6 V. Decoupling capacitors to the analog ground plane are to be placed as close as possible to this pin. [see datasheet]", 11 AGNDVCO (power) "VCO Analog Ground. These are the ground return pins for the VCO.", 12 RFOUTA+ (out) "VCO Output. The output level is programmable. The VCO fundamental output or a divided down version is available.", 13 RFOUTA- (out) "Complementary VCO Output. The output level is programmable. The VCO fundamental output or a divide down version is available.", 14 RFOUTB+ (out) "Auxilliary VCO Output. The output level is programmable. The VCO fundamental output or a divided down version is available.", 15 RFOUTB- (out) "Complementary Auxilliary VCO Output. The output level is programmable. The VCO fundamental output or a divided down version is available.", 16 VVCO (power) "Power Supply for the VCO. This ranges from 3.0 V to 3.6 V. Decoupling capacitors to the analog ground plane should be placed as close as possible to these pins. [see datasheet]", 17 VVCO (power) "Power Supply for the VCO. This ranges from 3.0 V to 3.6 V. Decoupling capacitors to the analog ground plane should be placed as close as possible to these pins. [see datasheet]", 18 AGNDVCO (power) "VCO Analog Ground. These are the ground return pins for the VCO.", 19 TEMP "Temperature Compensation Output. Decoupling capacitors to the ground plane are to be placed as close as possible to this pin.", 20 VTUNE (in) "Control Input to the VCO. This voltage determines the output frequency and is derived from filtering the CPOUT output voltage.", 21 AGNDVCO (power) "VCO Analog Ground. These are the ground return pins for the VCO.", 22 RSET (in) "Connecting a resistor between this pin and GND sets the charge pump output current. The nominal voltage bias at the RSET pin is 0.55 V.", 23 VCOM "Internal Compensation Node Biased at Half the Tuning Range. Decoupling capacitors to the ground plane should be placed as close as possible to this pin.", 24 VREF "Reference Voltage. Decoupling capacitors to the ground plane should be placed as close as possible to this pin.", 25 LD (out) "Lock Detect Output Pin. This pin outputs a logic high to indicate PLL lock. A logic low output indicates loss of PLL lock.", 26 PDBRF (in) "RF Power-Down. A logic low on this pin mutes the RF outputs. This function is also software controllable.", 27 DGND (power) "Digital Ground. Ground return path for DVDD.", 28 DVDD (power) "Digital Power Supply. This pin should be the same voltage as AVDD. Decoupling capacitors to the ground plane should be placed as close as possible to this pin.", 29 REFIN (in) "Reference Input. This is a CMOS input with a nominal threshold of VDD/2 and a dc equivalent input resistance of 100 k ohm. [see datasheet]", 30 MUXOUT (out) "Multiplexer Output. This multiplexer output allows either the lock detect, the scaled RF, or the scaled reference frequency to be accessed externally.", 31 SDGND (power) "Digital Sigma-Delta Modulator Ground. Ground return path for the Sigma-Delta Modulator.", 32 SDVDD (power) "Power Supply Pin for the Digital Sigma-Delta Modulator. Should be the same voltage as AVDD. Decoupling capacitors to the ground plane are to be placed as close as possible to this pin.", 33 EP (power) "Exposed Pad."

## ADF4360-0BCPZ
designator U?
Integrated Synthesizer and VCO, CP-24-2, Pb-Free, 490 Tray; Single/Dual: Single; Max RF Input (MHz): 2.725GHz; RF Prescalers: 16/17, 32/33, 8/9; Max REFin (MHz): 250MHz; Norm Phase Noise (dBc/Hz): -216dBc; Frequency Range: 2.45GHz-2.725GHz; Supply Current: 50mA; DatasheetVersion: Rev. A; PackageVersion: Jan-2005; PackageReference: CP-24-2; PackageDescription: 24-Lead Lead Frame Chip Scale Package [LFCSP_VQ]; Code_JEDEC: MO-220-VGGD-2; ComponentLink1Description: Manufacturer URL; ComponentLink1URL: www.analog.com; ComponentLink2Description: Datasheet; ComponentLink2URL: http://www.analog.com/static/imported-files/data_sheets/ADF4360-0.pdf; ComponentLink3Description: Package Specification; ComponentLink3URL: http://www.analog.com/static/imported-files/packages/588305704543880784658541CP_24_2.pdf
footprint ADI-CP-24-2_N (QFN, 24-Leads, Body 4x4mm, Pitch 0.5mm, Thermal Pad 2.3x2.3mm, IPC Medium Density)
footprint ADI-CP-24-2_L (QFN, 24-Leads, Body 4x4mm, Pitch 0.5mm, Thermal Pad 2.3x2.3mm, IPC High Density)
footprint ADI-CP-24-2_M (QFN, 24-Leads, Body 4x4mm, Pitch 0.5mm, Thermal Pad 2.3x2.3mm, IPC Low Density)
pins: 1 CPGND (power) "Charge Pump Ground. This is the ground return path for the charge pump.", 2 AVDD (power) "Analog Power Supply. This ranges from 3.0 V to 3.6 V. Decoupling capacitors to the analog ground plane should be placed as close as possible to this pin. [see datasheet]", 3 AGND (power) "Analog Ground. This is the ground return path of the prescaler and VCO.", 4 RFOUTA (out) "VCO Output. The output level is programmable from 0 dBm to -9 dBm. See the Output Matching section for a description of the various output stages.", 5 RFOUTB (out) "VCO Complementary Output. The output level is programmable from 0 dBm to -9 dBm. See the Output Matching section for a description of the various output stages.", 6 VVCO (power) "Power Supply for the VCO. This ranges from 3.0 V to 3.6 V. Decoupling capacitors to the analog ground plane should be placed as close as possible to this pin. [see datasheet]", 7 VTUNE (in) "Control Input to the VCO. This voltage determines the output frequency and is derived from filtering the CP output voltage.", 8 AGND (power) "Analog Ground. This is the ground return path of the prescaler and VCO.", 9 AGND (power) "Analog Ground. This is the ground return path of the prescaler and VCO.", 10 AGND (power) "Analog Ground. This is the ground return path of the prescaler and VCO.", 11 AGND (power) "Analog Ground. This is the ground return path of the prescaler and VCO.", 12 CC "Internal Compensation Node. This pin must be decoupled to ground with a 10 nF capacitor.", 13 RSET (in) "Connecting a resistor between this pin and CPGND sets the maximum charge pump output current for the synthesizer. The nominal voltage potential at the RSET pin is 0.6 V. [see datasheet]", 14 CN "Internal Compensation Node. This pin must be decoupled to VVCO with a 10 uF capacitor.", 15 DGND (power) "Digital Ground.", 16 REFIN (in) "Reference Input. This is a CMOS input with a nominal threshold of VDD/2 and a dc equivalent input resistance of 100 k ohm (see Figure 16). [see datasheet]", 17 CLK (in) "Serial Clock Input. This serial clock is used to clock in the serial data to the registers. The data is latched into the 24-bit shift register on the CLK rising edge. [see datasheet]", 18 DATA (in) "Serial Data Input. The serial data is loaded MSB first with the two LSBs being the control bits. This input is a high impedance CMOS input.", 19 LE (in) "Load Enable, CMOS Input. When LE goes high, the data stored in the shift registers is loaded into one of the four latches, and the relevant latch is selected using the control bits.", 20 MUXOUT (out) "This multiplexer output allows either the lock detect, the scaled RF, or the scaled reference frequency be accessed externally.", 21 DVDD (power) "Digital Power Supply. This ranges from 3.0 V to 3.6 V. Decoupling capacitors to the digital ground plane should be placed as close as possible to this pin. [see datasheet]", 22 AGND (power) "Analog Ground. This is the ground return path of the prescaler and VCO.", 23 CE (in) "Chip Enable. A logic low on this pin powers down the device and puts the charge pump into three-state mode. [see datasheet]", 24 CP (out) "Charge Pump Output. When enabled, this provides +/-ICP to the external loop filter, which in turn, drives the internal VCO.", 25 EP (power) "Exposed Pad."